# EAGLE library part 19-337 (library everlight)
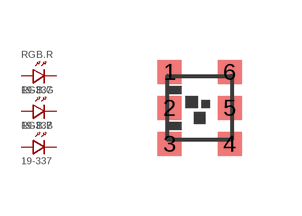
[diagram p0: symbol with the pads of 19-337; footprint 19-337]

Designator prefix RGB; gates .R=LED .G=LED .B=LED

## 19-337"  [19-337]
1  .B:-
2  .R:-
3  .G:-
4  .B:+
5  .R:+
6  .G:+

## Footprint 19-337 (pad centres in mm)
smd 0.6 x 0.6: 1 -0.75,0.9; 2 -0.75,0; 3 -0.75,-0.9; 4 0.75,-0.9; 5 0.75,0; 6 0.75,0.9